# Altium footprint library CONN-SMD_24P-P0.40__X0400FVS-24-LPSN.PcbLib: 1 footprints
Each footprint in its own frame and in the unit in brackets; x right, y up, seen from the top. Pads: shape width x height; smd on the part's side, far side on the other; paste and mask are expansions set on the pad; w line width, h text height; cw(c..) or ccw(c..) is an arc to the next point about the centre after c.
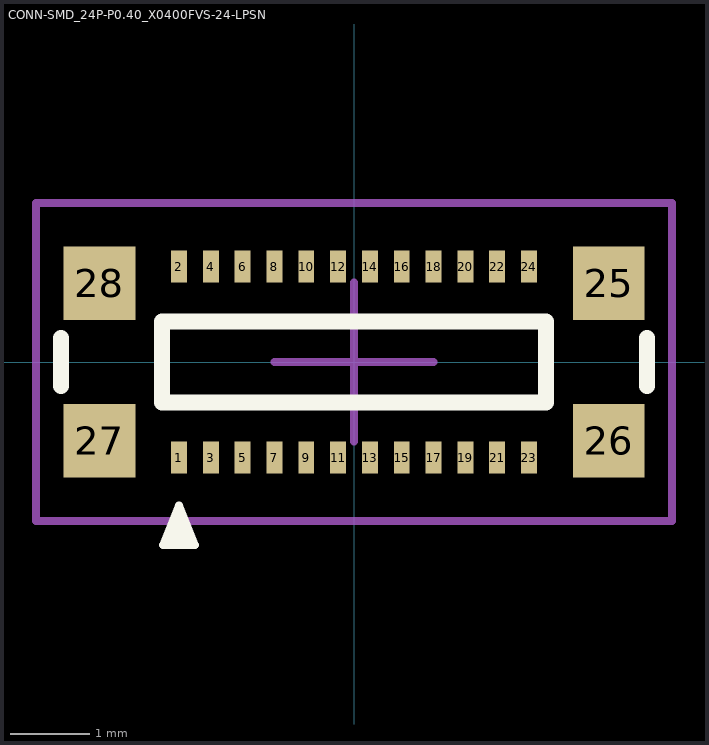
[diagram p0: the footprint, top view; thin cyan lines are the x and y axes]

## CONN-SMD_24P-P0.40_X0400FVS-24-LPSN [mm]
pads (28):
  rect 0.2x0.4 smd: 1(-2.2,-1.2) 2(-2.2,1.2) 3(-1.8,-1.2) 4(-1.8,1.2) 5(-1.4,-1.2) 6(-1.4,1.2) 7(-1,-1.2) 8(-1,1.2) 9(-0.6,-1.2) 10(-0.6,1.2) 11(-0.2,-1.2) 12(-0.2,1.2) 13(0.2,-1.2) 14(0.2,1.2) 15(0.6,-1.2) 16(0.6,1.2) 17(1,-1.2) 18(1,1.2) 19(1.4,-1.2) 20(1.4,1.2) 21(1.8,-1.2) 22(1.8,1.2) 23(2.2,-1.2) 24(2.2,1.2)
  rect 0.9x0.92 smd: 25(3.2,0.99) 26(3.2,-0.99) 27(-3.2,-0.99) 28(-3.2,0.99)
Top Overlay:
  region: -2.4,-2.3 -2.2,-1.8 -2,-2.3
  lines w0.1: -2.4,-2.3 -2,-2.3 -2.2,-1.8 -2.4,-2.3
  lines w0.2: -3.683,-0.301 -3.683,0.301 ; 3.683,-0.301 3.683,0.301 ; -2.413,-0.508 2.413,-0.508 2.413,0.508 -2.413,0.508 -2.413,-0.508
Top Courtyard:
  lines w0.1: -4,-2 4,-2 4,2 -4,2 -4,-1 -4,-2
Top Designator:
  text ".Designator" at -2.856,-0.293 h1.52
Top Component Center:
  lines w0.1: -1,0 1,0 ; 0,-1 0,1
3D body "X0400FVS-24-LPV01.STEP": height 0.78, standoff 0.01, extent -3.65,-1.25 3.65,1.25